# EAGLE library part KLEMME_2-20-FUSED_IO (library klemmen)
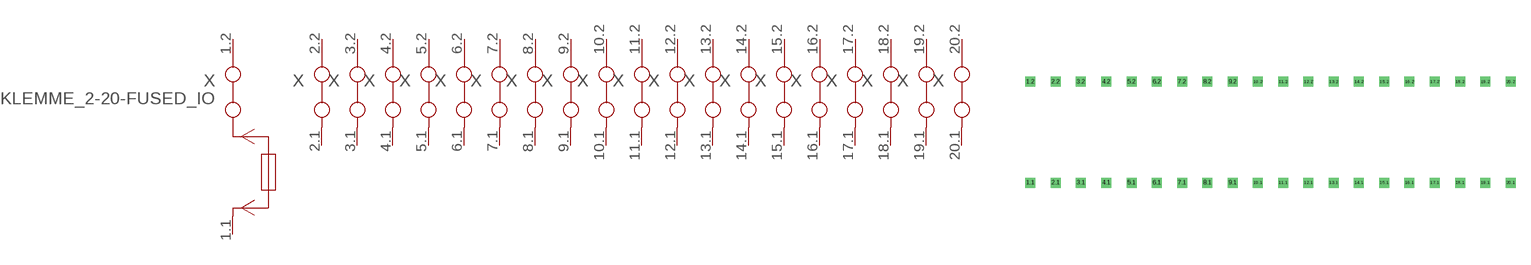
[diagram p2: symbol with the pads of KLEMME_1-20; footprint KLEMME_1-20]

Designator prefix X; gates 1=KLEMME_2-1-FUSED 2=KLEMME_2-1.2 3=KLEMME_2-1.2 4=KLEMME_2-1.2 5=KLEMME_2-1.2 6=KLEMME_2-1.2 7=KLEMME_2-1.2 8=KLEMME_2-1.2 9=KLEMME_2-1.2 10=KLEMME_2-1.2 11=KLEMME_2-1.2 12=KLEMME_2-1.2 13=KLEMME_2-1.2 14=KLEMME_2-1.2 15=KLEMME_2-1.2 16=KLEMME_2-1.2 17=KLEMME_2-1.2 18=KLEMME_2-1.2 19=KLEMME_2-1.2 20=KLEMME_2-1.2

## KLEMME_2-20-FUSED_IO  [KLEMME_1-20]
1.1  1:1.1  pas
1.2  1:1.2  pas
2.1  2:1.1  pas
2.2  2:1.2  pas
3.1  3:1.1  pas
3.2  3:1.2  pas
4.1  4:1.1  pas
4.2  4:1.2  pas
5.1  5:1.1  pas
5.2  5:1.2  pas
6.1  6:1.1  pas
6.2  6:1.2  pas
7.1  7:1.1  pas
7.2  7:1.2  pas
8.1  8:1.1  pas
8.2  8:1.2  pas
9.1  9:1.1  pas
9.2  9:1.2  pas
10.1  10:1.1  pas
10.2  10:1.2  pas
11.1  11:1.1  pas
11.2  11:1.2  pas
12.1  12:1.1  pas
12.2  12:1.2  pas
13.1  13:1.1  pas
13.2  13:1.2  pas
14.1  14:1.1  pas
14.2  14:1.2  pas
15.1  15:1.1  pas
15.2  15:1.2  pas
16.1  16:1.1  pas
16.2  16:1.2  pas
17.1  17:1.1  pas
17.2  17:1.2  pas
18.1  18:1.1  pas
18.2  18:1.2  pas
19.1  19:1.1  pas
19.2  19:1.2  pas
20.1  20:1.1  pas
20.2  20:1.2  pas

## Footprint KLEMME_1-20 (pad centres in mm)
Dummy
drill 0.5 pad 1 square: 1.1 0,-12.7; 1.2 0,-2.54; 2.1 2.54,-12.7; 2.2 2.54,-2.54; 3.1 5.08,-12.7; 3.2 5.08,-2.54; 4.1 7.62,-12.7; 4.2 7.62,-2.54; 5.1 10.16,-12.7; 5.2 10.16,-2.54; 6.1 12.7,-12.7; 6.2 12.7,-2.54; 7.1 15.24,-12.7; 7.2 15.24,-2.54; 8.1 17.78,-12.7; 8.2 17.78,-2.54; 9.1 20.32,-12.7; 9.2 20.32,-2.54; 10.1 22.86,-12.7; 10.2 22.86,-2.54; 11.1 25.4,-12.7; 11.2 25.4,-2.54; 12.1 27.94,-12.7; 12.2 27.94,-2.54; 13.1 30.48,-12.7; 13.2 30.48,-2.54; 14.1 33.02,-12.7; 14.2 33.02,-2.54; 15.1 35.56,-12.7; 15.2 35.56,-2.54; 16.1 38.1,-12.7; 16.2 38.1,-2.54; 17.1 40.64,-12.7; 17.2 40.64,-2.54; 18.1 43.18,-12.7; 18.2 43.18,-2.54; 19.1 45.72,-12.7; 19.2 45.72,-2.54; 20.1 48.26,-12.7; 20.2 48.26,-2.54